# Altium schematic symbol library Other.SchLib: 179 symbols (part 4 of 11)
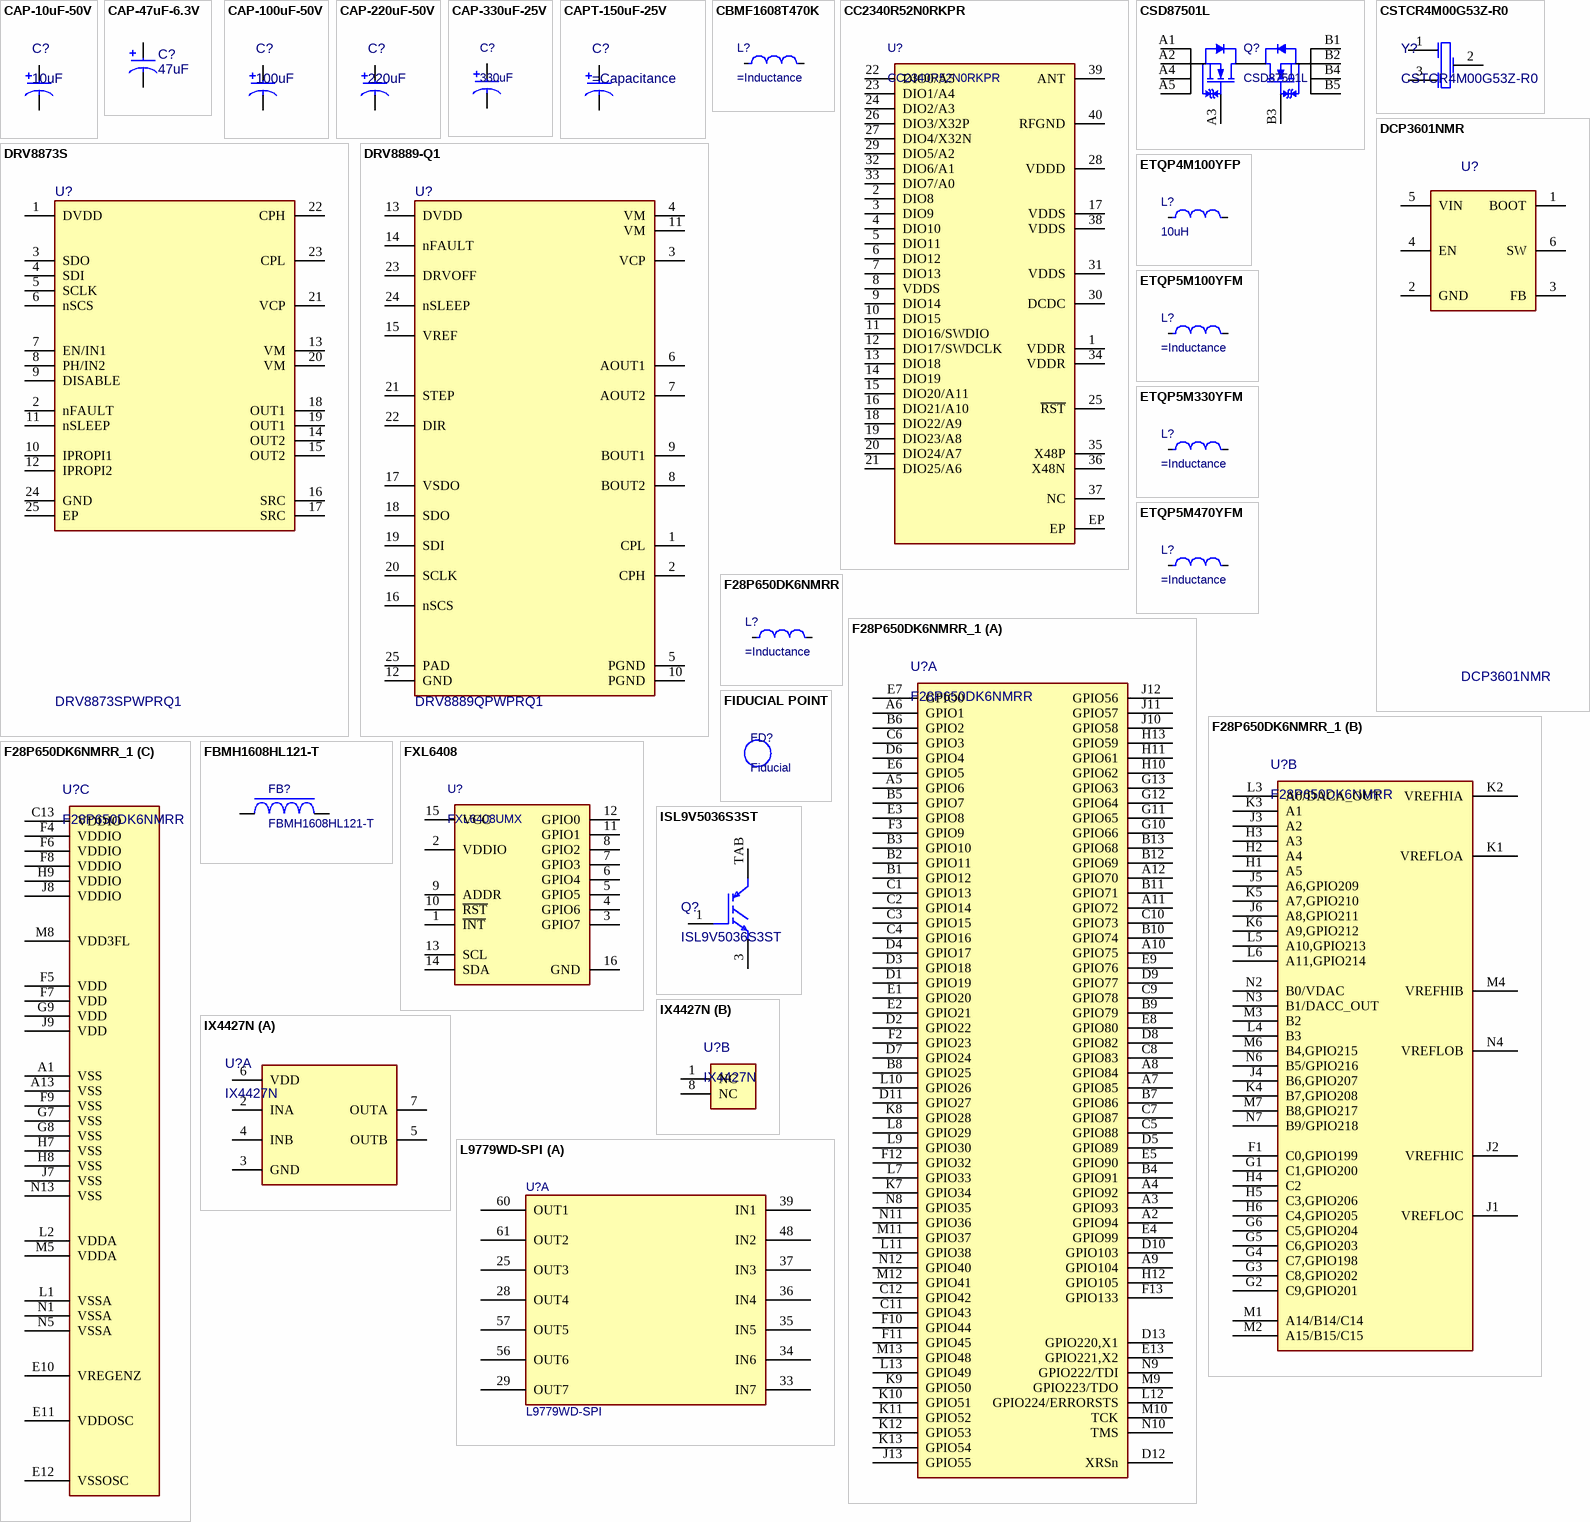
[diagram p11: symbols CAP-10uF-50V to L9779WD-SPI]

## CSD87501L
designator Q?
30-V, N channel NexFET™ power MOSFET, dual common drain LGA, 5.5 mOhm, gate ESD protection 10-PICOSTAR; Manufacturer: Texas Instruments; Manufacturer Lifecycle Status: ACTIVE; Continuous Drain Current (ID): 14A; Drain to Source Resistance: 6.6mΩ; Drain to Source Voltage (Vdss): 30V; Fall Time: 712ns; Gate to Source Voltage (Vgs): 20V; Max Power Dissipation: 2.5W; Number of Channels: 2; Rise Time: 260ns; Turn-Off Delay Time: 709ns; Turn-On Delay Time: 164ns; Supplier 1: DigiKey; Supplier Part Number 1: 296-40013-1-ND; Supplier: DigiKey; Supplier Part Number: 296-40013-1-ND; Manufacturer Part Number: CSD87501L; RoHS: Compliant; Category: MOSFETs; Stock: 6615; Pricing: 1=0,81, 10=0,581, 25=0,5224, 100=0,4584, 250=0,42784, 500=0,40944, 1000=0,3943 (USD); Case/Package: LGA; Height: 220µm; Lead Free: Lead Free; Length: 3.37mm; Lifecycle Status: Production; Max Operating Temperature: 150°C; Min Operating Temperature: -55°C; Mounting Technology: Surface Mount; Pins: 10; Packaging: Tape & Reel (TR); Thickness: 200µm; Width: 1.47mm; ComponentLink1URL: https://datasheet.octopart.com:443/CSD87501L-Texas-Instruments-datasheet-41215293.pdf?src-supplier=Texas+Instruments; ComponentLink1Description: https://datasheet.octopart.com:443/CSD87501L-Texas-Instruments-datasheet-41215293.pdf?src-supplier=Texas+Instruments; ComponentLink2URL: https://octopart.com:443/opatz8j6/c1?t=_RedG_TPcN_0GczmU68-P37L9Zvpt3NS3kx6MiuHa2BSpFJce8KxlJZWCAx0W6d-iC935YQ1tgzZp-8X-gshII2s34GfhUg3BX-XxpFR4CM_VzAfHprzZV-2qMCf6_JfQCQqUELWsoWukakZgfd_5ce4_akaR8RCXxat2NNZjlpVevOWzoBaWp4U6NQK9_cOm5QeiChx_lm8OCQLYVuwX7Mk5PhsTLwXlxyNZ1IxIBlAXyq8cFQoZF4KteL0qQGq4eo34I9YXMr8GhXgkSj6zn_02x7uiVxWKHxqYWaiNryMrdhLYxVERUL7k6ilo1ooPJEpbt6XeUStLa2EIL9AdP1AWipqkYuULgE6f0lNTYI2JKpaKNHtbCIo6fA_wClksbCCH3yPvQ&src-supplier=Texas+Instruments; ComponentLink2Description: https://octopart.com:443/opatz8j6/c1?t=_RedG_TPcN_0GczmU68-P37L9Zvpt3NS3kx6MiuHa2BSpFJce8KxlJZWCAx0W6d-iC935YQ1tgzZp-8X-gshII2s34GfhUg3BX-XxpFR4CM_VzAfHprzZV-2qMCf6_JfQCQqUELWsoWukakZgfd_5ce4_akaR8RCXxat2NNZjlpVevOWzoBaWp4U6NQK9_cOm5QeiChx_lm8OCQLYVuwX7Mk5PhsTLwXlxyNZ1IxIBlAXyq8cFQoZF4KteL0qQGq4eo34I9YXMr8GhXgkSj6zn_02x7uiVxWKHxqYWaiNryMrdhLYxVERUL7k6ilo1ooPJEpbt6XeUStLa2EIL9AdP1AWipqkYuULgE6f0lNTYI2JKpaKNHtbCIo6fA_wClksbCCH3yPvQ&src-supplier=Texas+Instruments; ComponentLink3URL: https://datasheet.octopart.com:443/CSD87501L-Texas-Instruments-datasheet-36993143.pdf?src-supplier=Texas+Instruments; ComponentLink3Description: https://datasheet.octopart.com:443/CSD87501L-Texas-Instruments-datasheet-36993143.pdf?src-supplier=Texas+Instruments; ComponentLink4URL: https://datasheet.octopart.com:443/CSD87501L-Texas-Instruments-datasheet-163657973.pdf?src-supplier=Augswan; ComponentLink4Description: https://datasheet.octopart.com:443/CSD87501L-Texas-Instruments-datasheet-163657973.pdf?src-supplier=Augswan; ComponentLink5URL: http://sigma.octopart.com:80/conflict_mineral_statement/Texas-Instruments-company-63.pdf?src-supplier=Compliance+Statements; ComponentLink5Description: http://sigma.octopart.com:80/conflict_mineral_statement/Texas-Instruments-company-63.pdf?src-supplier=Compliance+Statements; ComponentLink6URL: http://sigma.octopart.com:80/reach_statement/Texas-Instruments-company-64.pdf?src-supplier=Compliance+Statements; ComponentLink6Description: http://sigma.octopart.com:80/reach_statement/Texas-Instruments-company-64.pdf?src-supplier=Compliance+Statements
footprint SOT-363 (6 pin, 2x2.1mm)
pins: A1 S1, A2 S1, A3 G1, A4 S1, A5 S1, B1 S2, B2 S2, B3 G2, B4 S2, B5 S2

## CSTCR4M00G53Z-R0
designator Y?
CERAMIC RES 4.0000MHZ 15PF SMD; Manufacturer: Murata; Frequency: 4MHz; Tolerance: 0.5%; Impedance: 60R; Frequency Stability: 0.2%; Operating Frequency: 4 MHz; Supplier 1: Digi-Key; Manufacturer Part Number: CSTCR4M00G53Z-R0; RoHS: Yes; Category: Capacitors; Pricing 1: 1=0.27000, 10=0.22400, 50=0.20200, 100=0.17960, 500=0.17062, 1000=0.14368 (USD); Mount: Surface Mount; Case/Package: SMD/SMT; Number of Pins: 3; Contact Plating: Gold; Min Operating Temperature: -20°C; Max Operating Temperature: 80°C; Packaging: Tape and Reel; Package Quantity: 3000; Frequency Tolerance: 0.5%; Capacitance: 15pF; Load Capacitance: 15pF; Termination: SMD/SMT; Resistor Type: Ceramic; Self Resonant Frequency: 4MHz; Series: CERALOCK®; Length: 0.177inch; Width: 0.079inch; Height: 0.047inch; REACH SVHC: No SVHC; Lead Free: Lead Free; RoHS Compliant: Yes; ComponentLink1URL: https://datasheet.ciiva.com/26843/getdatasheetpartid-153071-26843600.pdf?src-supplier=Verical; ComponentLink1Description: https://datasheet.ciiva.com/26843/getdatasheetpartid-153071-26843600.pdf?src-supplier=Verical; ComponentLink2URL: https://datasheet.ciiva.com/25665/cstcr4m00g53z-r0-25665822.pdf?src-supplier=Future+Electronics; ComponentLink2Description: https://datasheet.ciiva.com/25665/cstcr4m00g53z-r0-25665822.pdf?src-supplier=Future+Electronics; ComponentLink3URL: https://datasheet.ciiva.com/884/p16e-884420.pdf?src-supplier=Digi-Key; ComponentLink3Description: https://datasheet.ciiva.com/884/p16e-884420.pdf?src-supplier=Digi-Key; ComponentLink4URL: https://datasheet.ciiva.com/884/p16e-884421.pdf?src-supplier=Digi-Key; ComponentLink4Description: https://datasheet.ciiva.com/884/p16e-884421.pdf?src-supplier=Digi-Key; ComponentLink5URL: https://datasheet.ciiva.com/884/p16e-884422.pdf?src-supplier=Digi-Key; ComponentLink5Description: https://datasheet.ciiva.com/884/p16e-884422.pdf?src-supplier=Digi-Key; Supplier Part Number 1: 490-1217-1-ND
footprint CSTCR4M00G53Z (0.177" L x 0.079" W (4.50mm x 2.00mm))
pins: 1, 2, 3

## DCP3601NMR
designator U?
36 V, 1 A SYNCHRONOUS STEP-DOWN; Manufacturer: STMicroelectronics; Supplier: Digikey; Supplier Part Number: 497-DCP3601NMRCT-ND; Manufacturer Part Number: DCP3601NMR; RoHS: No; Category: Voltage Regulators - Switching; Stock: 1960; Pricing: 1=0,79, 10=0,562, 25=0,5052, 100=0,443, 250=0,41336, 500=0,39546, 1000=0,38074, 2500=0,3652, 5000=0,35584 (USD); Supplier 1: Digikey; Supplier Part Number 1: 497-DCP3601NMRCT-ND
footprint SOT-23-6 (SOT-23, 5-Leads, Body 2.8x1.5mm)
pins: 1 BOOT, 2 GND, 3 FB, 4 EN, 5 VIN, 6 SW

## DRV8873S
designator U?, comment DRV8873SPWPRQ1
IC MTRDRV UNIPLR 0-5.5V 24HTSSOP Unipolar Motor Driver NMOS SPI 24-HTSSOP; Manufacturer: Texas Instruments; Manufacturer Lifecycle Status: ACTIVE; Max Junction Temperature (Tj): 150°C; Max Supply Voltage: 38V; Min Supply Voltage: 4.5V; Motor Type: Brushed; Nominal Supply Current: 5mA; Number of Outputs: 1; Switching Frequency: 400kHz; Supplier: DigiKey; Supplier Part Number: 296-50275-1-ND; Manufacturer Part Number: DRV8873SPWPRQ1; RoHS: Compliant; Category: Motor Drivers; Stock: 6287; Pricing: 1=4,6, 5=4,126, 10=3,949, 25=3,7388, 50=3,5952, 100=3,4635, 500=3,20104 (USD); Ambient Temperature Range High: 125°C; Height: 1.2mm; Length: 7.8mm; Lifecycle Status: Production; Max Operating Temperature: 125°C; Min Operating Temperature: -40°C; Pins: 24; Schedule B: 8542390000, 8542390000|8542390000|8542390000|8542390000|8542390000; Thickness: 1mm; Width: 4.4mm; ComponentLink1URL: https://octopart.com:443/opatz8j6/c1?t=BvrUXf77c037hmq0Opo5ueZ8VXhPHTv-VkrvLEApmVudt6b-DuOv44XL7SjM1yNibxipMj6MRMU6YED3g_3o1zBVK9QefeT-tmmvd0HKKLb3G026IEFapK8Ihecf1Q_SvZFMDJOXbMx8bJVsL_UawQgLs5Jks9xc8FbSuCyGx2HVSeWhi0P4rxDznQReVStBCSsueBDBQ040TryA2wpYGjc4htTFK_GVpIq2Ne25cxBr3Zh2t4uKqkHQurCeACualcnpZoBppUO2V0Vv69asfelVf3L20UF09t1PVYG4z-rSym9zW5XXabn_uFLibJ3i6dHe5_kLmzk7iqR0cYkJvG35OisyikXdra4chr3q6GyDiKI5IKtGCH5cB0H5h83PKmmWDATYZxM&src-supplier=Texas+Instruments; ComponentLink1Description: https://octopart.com:443/opatz8j6/c1?t=BvrUXf77c037hmq0Opo5ueZ8VXhPHTv-VkrvLEApmVudt6b-DuOv44XL7SjM1yNibxipMj6MRMU6YED3g_3o1zBVK9QefeT-tmmvd0HKKLb3G026IEFapK8Ihecf1Q_SvZFMDJOXbMx8bJVsL_UawQgLs5Jks9xc8FbSuCyGx2HVSeWhi0P4rxDznQReVStBCSsueBDBQ040TryA2wpYGjc4htTFK_GVpIq2Ne25cxBr3Zh2t4uKqkHQurCeACualcnpZoBppUO2V0Vv69asfelVf3L20UF09t1PVYG4z-rSym9zW5XXabn_uFLibJ3i6dHe5_kLmzk7iqR0cYkJvG35OisyikXdra4chr3q6GyDiKI5IKtGCH5cB0H5h83PKmmWDATYZxM&src-supplier=Texas+Instruments; ComponentLink2URL: https://sigma.octopart.com:443/49250897/technical_drawing/Texas-Instruments-DRV8873SPWPRQ1.pdf?src-supplier=Texas+Instruments; ComponentLink2Description: https://sigma.octopart.com:443/49250897/technical_drawing/Texas-Instruments-DRV8873SPWPRQ1.pdf?src-supplier=Texas+Instruments; ComponentLink3URL: https://datasheet.octopart.com:443/DRV8873SPWPRQ1-Texas-Instruments-datasheet-149164899.pdf?src-supplier=Upverter; ComponentLink3Description: https://datasheet.octopart.com:443/DRV8873SPWPRQ1-Texas-Instruments-datasheet-149164899.pdf?src-supplier=Upverter; ComponentLink4URL: https://datasheet.octopart.com:443/DRV8873SPWPRQ1-Texas-Instruments-datasheet-163658173.pdf?src-supplier=SHENGYU+ELECTRONICS; ComponentLink4Description: https://datasheet.octopart.com:443/DRV8873SPWPRQ1-Texas-Instruments-datasheet-163658173.pdf?src-supplier=SHENGYU+ELECTRONICS; ComponentLink5URL: http://sigma.octopart.com:80/conflict_mineral_statement/Texas-Instruments-company-63.pdf?src-supplier=Compliance+Statements; ComponentLink5Description: http://sigma.octopart.com:80/conflict_mineral_statement/Texas-Instruments-company-63.pdf?src-supplier=Compliance+Statements; ComponentLink6URL: http://sigma.octopart.com:80/reach_statement/Texas-Instruments-company-64.pdf?src-supplier=Compliance+Statements; ComponentLink6Description: http://sigma.octopart.com:80/reach_statement/Texas-Instruments-company-64.pdf?src-supplier=Compliance+Statements; Supplier 1: DigiKey; Supplier Part Number 1: 296-50275-1-ND
footprint TSSOP-24-EP (24-Pin Ceramic Case, 0.65 mm pin pitch)
pins: 1 DVDD, 2 nFAULT, 3 SDO, 4 SDI, 5 SCLK, 6 nSCS, 7 EN/IN1, 8 PH/IN2, 9 DISABLE, 10 IPROPI1, 11 nSLEEP, 12 IPROPI2, 13 VM, 14 OUT2, 15 OUT2, 16 SRC, 17 SRC, 18 OUT1, 19 OUT1, 20 VM, 21 VCP, 22 CPH, 23 CPL, 24 GND, 25 EP

## DRV8889-Q1
designator U?, comment DRV8889QPWPRQ1
AUTOMOTIVE STEPPER DRIVER; Manufacturer: Texas Instruments; RoHS: Yes; Category: Integrated Circuits (ICs); Stock 1: 1016; Pricing 1: 1=4.62000, 10=4.15300, 25=3.92560, 100=3.40230, 250=3.22780, 500=2.89630, 1000=2.74882 (USD); Manufacturer Part Number: DRV8889QPWPRQ1; Case/Package: 24-TSSOP
footprint TSSOP-24-EP (24-Pin Ceramic Case, 0.65 mm pin pitch)
pins: 1 CPL, 2 CPH, 3 VCP, 4 VM, 5 PGND, 6 AOUT1, 7 AOUT2, 8 BOUT2, 9 BOUT1, 10 PGND, 11 VM, 12 GND, 13 DVDD, 14 nFAULT, 15 VREF, 16 nSCS, 17 VSDO, 18 SDO, 19 SDI, 20 SCLK, 21 STEP, 22 DIR, 23 DRVOFF, 24 nSLEEP, 25 PAD

## ETQP4M100YFP
designator L?, comment 10uH
Inductor Fixed 10UH SMD; Manufacturer: Panasonic; Manufacturer Part Number: ETQ-P4M100YFP; Supplier 1: DigiKey; Supplier Part Number 1: 10-ETQ-P4M100YFPCT-ND; Supplier: DigiKey; Supplier Part Number: 10-ETQ-P4M100YFPCT-ND; Category: Fixed Inductors; Pricing: 1=1,05, 10=0,86, 25=0,796, 50=0,7504, 100=0,7075, 250=0,65452, 500=0,61714 (USD); Inductance: 10uH
footprint ETQP4MxxxYFP (5.5mm x5mm inductor package)
pins: 1, 2

## ETQP5M100YFM
designator L?
Power Choke Shielded Wirewound 10uH 20% 100KHz Metal 5.7A 0.0413Ohm DCR Automotive T/R; Manufacturer: Panasonic; Manufacturer Part Number: ETQP5M100YFM; Core Material: Composite, Metal; DC Resistance (DCR): 41.3mΩ; Value: 10µH; Number of Circuits: 1; Saturation Current: 10.6A; Shielding: Yes; Supplier 1: DigiKey; Supplier Part Number 1: P17067CT-ND; Supplier: DigiKey; Supplier Part Number: P17067CT-ND; RoHS: Compliant; Category: Fixed Inductors; Stock: 4198; Pricing: 1=1,06, 10=0,873, 25=0,8072, 50=0,7612, 100=0,7176, 250=0,66392 (USD); Case/Package: Nonstandard; Composition: Wirewound; Depth: 7mm; Height: 5.4mm; Height - Seated (Max): 5.4102mm; Inductance Tolerance: 20%; Length: 7.493mm; Lifecycle Status: Production; Max Current Rating: 5.7A; Max DC Current: 5.7A; Max Operating Temperature: 150°C; Min Operating Temperature: -40°C; Mounting Technology: Surface Mount; Number of Terminals: 2; Packaging: Cut Tape; Ratings: AEC-Q200; REACH SVHC: Yes; Schedule B: 8504500000, 8504500000|8504500000|8504500000|8504500000|8504500000; Self Resonant Frequency: 100kHz; Termination: SMD/SMT; Test Frequency: 100kHz; Tolerance: 20%; Width: 7mm; ComponentLink1URL: https://datasheet.octopart.com:443/ETQP5M100YFM-Panasonic-datasheet-180975438.pdf?src-supplier=IHS; ComponentLink1Description: https://datasheet.octopart.com:443/ETQP5M100YFM-Panasonic-datasheet-180975438.pdf?src-supplier=IHS; ComponentLink2URL: https://datasheet.octopart.com:443/ETQP5M100YFM-Panasonic-datasheet-97125960.pdf?src-supplier=Future+Electronics; ComponentLink2Description: https://datasheet.octopart.com:443/ETQP5M100YFM-Panasonic-datasheet-97125960.pdf?src-supplier=Future+Electronics; ComponentLink3URL: https://datasheet.octopart.com:443/ETQP5M100YFM-Panasonic-datasheet-136612417.pdf?src-supplier=Newark; ComponentLink3Description: https://datasheet.octopart.com:443/ETQP5M100YFM-Panasonic-datasheet-136612417.pdf?src-supplier=Newark; ComponentLink4URL: https://datasheet.octopart.com:443/ETQP5M100YFM-Panasonic-datasheet-175423512.pdf?src-supplier=Newark; ComponentLink4Description: https://datasheet.octopart.com:443/ETQP5M100YFM-Panasonic-datasheet-175423512.pdf?src-supplier=Newark; ComponentLink5URL: https://datasheet.octopart.com:443/ETQ-P5M100YFM-Panasonic-datasheet-154766191.pdf?src-supplier=Master+Electronics; ComponentLink5Description: https://datasheet.octopart.com:443/ETQ-P5M100YFM-Panasonic-datasheet-154766191.pdf?src-supplier=Master+Electronics; ComponentLink6URL: https://datasheet.octopart.com:443/ETQ-P5M100YFM-Panasonic-datasheet-140363995.pdf?src-supplier=Master+Electronics; ComponentLink6Description: https://datasheet.octopart.com:443/ETQ-P5M100YFM-Panasonic-datasheet-140363995.pdf?src-supplier=Master+Electronics; ComponentLink7URL: https://datasheet.octopart.com:443/ETQP5M100YFM-Panasonic-datasheet-41393403.pdf?src-supplier=Electro+Sonic; ComponentLink7Description: https://datasheet.octopart.com:443/ETQP5M100YFM-Panasonic-datasheet-41393403.pdf?src-supplier=Electro+Sonic; ComponentLink8URL: https://datasheet.octopart.com:443/ETQP5M100YFM-Panasonic-datasheet-156876476.pdf?src-supplier=TME; ComponentLink8Description: https://datasheet.octopart.com:443/ETQP5M100YFM-Panasonic-datasheet-156876476.pdf?src-supplier=TME; ComponentLink9URL: https://sigma.octopart.com:443/150570891/technical_drawing/Panasonic-ETQP5M100YFM.pdf?src-supplier=Panasonic+SCT; ComponentLink9Description: https://sigma.octopart.com:443/150570891/technical_drawing/Panasonic-ETQP5M100YFM.pdf?src-supplier=Panasonic+SCT; Inductance: 10µH
footprint ETQP5MxxxYFM (7.5mm x7mm inductor package)
pins: 1, 2

## ETQP5M330YFM
designator L?
Power Choke Shielded Wirewound 10uH 20% 100KHz Metal 5.7A 0.0413Ohm DCR Automotive T/R
footprint ETQP5MxxxYFM (7.5mm x7mm inductor package)
pins: 1, 2

## ETQP5M470YFM
designator L?
Power Choke Shielded Wirewound 10uH 20% 100KHz Metal 5.7A 0.0413Ohm DCR Automotive T/R
footprint ETQP5MxxxYFM (7.5mm x7mm inductor package)
pins: 1, 2

## F28P650DK6NMRR
designator L?
Power Choke Shielded Wirewound 10uH 20% 100KHz Metal 5.7A 0.0413Ohm DCR Automotive T/R; Manufacturer: Panasonic; Manufacturer Part Number: ETQP5M100YFM; Core Material: Composite, Metal; DC Resistance (DCR): 41.3mΩ; Value: 10µH; Number of Circuits: 1; Saturation Current: 10.6A; Shielding: Yes; Supplier 1: DigiKey; Supplier Part Number 1: P17067CT-ND; Supplier: DigiKey; Supplier Part Number: P17067CT-ND; RoHS: Compliant; Category: Fixed Inductors; Stock: 4198; Pricing: 1=1,06, 10=0,873, 25=0,8072, 50=0,7612, 100=0,7176, 250=0,66392 (USD); Case/Package: Nonstandard; Composition: Wirewound; Depth: 7mm; Height: 5.4mm; Height - Seated (Max): 5.4102mm; Inductance Tolerance: 20%; Length: 7.493mm; Lifecycle Status: Production; Max Current Rating: 5.7A; Max DC Current: 5.7A; Max Operating Temperature: 150°C; Min Operating Temperature: -40°C; Mounting Technology: Surface Mount; Number of Terminals: 2; Packaging: Cut Tape; Ratings: AEC-Q200; REACH SVHC: Yes; Schedule B: 8504500000, 8504500000|8504500000|8504500000|8504500000|8504500000; Self Resonant Frequency: 100kHz; Termination: SMD/SMT; Test Frequency: 100kHz; Tolerance: 20%; Width: 7mm; ComponentLink1URL: https://datasheet.octopart.com:443/ETQP5M100YFM-Panasonic-datasheet-180975438.pdf?src-supplier=IHS; ComponentLink1Description: https://datasheet.octopart.com:443/ETQP5M100YFM-Panasonic-datasheet-180975438.pdf?src-supplier=IHS; ComponentLink2URL: https://datasheet.octopart.com:443/ETQP5M100YFM-Panasonic-datasheet-97125960.pdf?src-supplier=Future+Electronics; ComponentLink2Description: https://datasheet.octopart.com:443/ETQP5M100YFM-Panasonic-datasheet-97125960.pdf?src-supplier=Future+Electronics; ComponentLink3URL: https://datasheet.octopart.com:443/ETQP5M100YFM-Panasonic-datasheet-136612417.pdf?src-supplier=Newark; ComponentLink3Description: https://datasheet.octopart.com:443/ETQP5M100YFM-Panasonic-datasheet-136612417.pdf?src-supplier=Newark; ComponentLink4URL: https://datasheet.octopart.com:443/ETQP5M100YFM-Panasonic-datasheet-175423512.pdf?src-supplier=Newark; ComponentLink4Description: https://datasheet.octopart.com:443/ETQP5M100YFM-Panasonic-datasheet-175423512.pdf?src-supplier=Newark; ComponentLink5URL: https://datasheet.octopart.com:443/ETQ-P5M100YFM-Panasonic-datasheet-154766191.pdf?src-supplier=Master+Electronics; ComponentLink5Description: https://datasheet.octopart.com:443/ETQ-P5M100YFM-Panasonic-datasheet-154766191.pdf?src-supplier=Master+Electronics; ComponentLink6URL: https://datasheet.octopart.com:443/ETQ-P5M100YFM-Panasonic-datasheet-140363995.pdf?src-supplier=Master+Electronics; ComponentLink6Description: https://datasheet.octopart.com:443/ETQ-P5M100YFM-Panasonic-datasheet-140363995.pdf?src-supplier=Master+Electronics; ComponentLink7URL: https://datasheet.octopart.com:443/ETQP5M100YFM-Panasonic-datasheet-41393403.pdf?src-supplier=Electro+Sonic; ComponentLink7Description: https://datasheet.octopart.com:443/ETQP5M100YFM-Panasonic-datasheet-41393403.pdf?src-supplier=Electro+Sonic; ComponentLink8URL: https://datasheet.octopart.com:443/ETQP5M100YFM-Panasonic-datasheet-156876476.pdf?src-supplier=TME; ComponentLink8Description: https://datasheet.octopart.com:443/ETQP5M100YFM-Panasonic-datasheet-156876476.pdf?src-supplier=TME; ComponentLink9URL: https://sigma.octopart.com:443/150570891/technical_drawing/Panasonic-ETQP5M100YFM.pdf?src-supplier=Panasonic+SCT; ComponentLink9Description: https://sigma.octopart.com:443/150570891/technical_drawing/Panasonic-ETQP5M100YFM.pdf?src-supplier=Panasonic+SCT; Inductance: 10µH
footprint ETQP5MxxxYFM (7.5mm x7mm inductor package)
pins: 1, 2

## F28P650DK6NMRR_1
designator U?, comment F28P650DK6NMRR
C2000™ 32-bit MCU, 2x C28x+CLA CPU, Lock Step, 1.28-MB flash, 16-b ADC, HRPWM, EtherCAT, CAN-FD, AES 169-NFBGA -40 to...; Manufacturer: Texas Instruments; Manufacturer Lifecycle Status: ACTIVE; Number of UART Channels: 4; Supplier 1: DigiKey; Supplier Part Number 1: 296-F28P650DK6NMRRTR-ND; Supplier: DigiKey; Supplier Part Number: 296-F28P650DK6NMRRTR-ND; Manufacturer Part Number: F28P650DK6NMRR; RoHS: Compliant; Category: Microcontrollers; Pricing: 1000=11,46098 (USD); Height: 0m; Length: 9mm; Lifecycle Status: Production; Pins: 169; Thickness: 650µm; Width: 9mm; ComponentLink1URL: https://sigma.octopart.com:443/170336436/technical_drawing/Texas-Instruments-F28P650DK6NMRR.pdf?src-supplier=Texas+Instruments; ComponentLink1Description: https://sigma.octopart.com:443/170336436/technical_drawing/Texas-Instruments-F28P650DK6NMRR.pdf?src-supplier=Texas+Instruments; ComponentLink2URL: https://octopart.com:443/opatz8j6/c1?t=APRw11tpYPVjWCcH60awOXt0cGwImscANGC7li7_cx_Agxm915MhAZTObmDghc9eZOaw_mHD48OCZSRp73lGddKWUBe5fw7JdS3oY6-WaShYciiLLEgoA4x4huAl_qcDmd35tthWJciG_j9G0_KiT0SpOlZap5xOApFweMh2aZbGRedpPOVXVEDON4Icb6hkm9W7qm4-y49tBp6shpQILr3wInC47Ns5REcOk_fqp6GFBCGfdNNlvimY7LhF-z2TQJYRCUXuPMF8jbjKwibXb4IEVHm3troRaaxBm4vGhw5rMNpdyp6Yfknc0rFnvpyRKpgralAt9vXUJ0VNHXN8-zHJova3rwODBasGVAO6XlgY1J4nqzjFJr64ola8gSl7fMvjJfjBTM6KoBMDgg&src-supplier=Texas+Instruments; ComponentLink2Description: https://octopart.com:443/opatz8j6/c1?t=APRw11tpYPVjWCcH60awOXt0cGwImscANGC7li7_cx_Agxm915MhAZTObmDghc9eZOaw_mHD48OCZSRp73lGddKWUBe5fw7JdS3oY6-WaShYciiLLEgoA4x4huAl_qcDmd35tthWJciG_j9G0_KiT0SpOlZap5xOApFweMh2aZbGRedpPOVXVEDON4Icb6hkm9W7qm4-y49tBp6shpQILr3wInC47Ns5REcOk_fqp6GFBCGfdNNlvimY7LhF-z2TQJYRCUXuPMF8jbjKwibXb4IEVHm3troRaaxBm4vGhw5rMNpdyp6Yfknc0rFnvpyRKpgralAt9vXUJ0VNHXN8-zHJova3rwODBasGVAO6XlgY1J4nqzjFJr64ola8gSl7fMvjJfjBTM6KoBMDgg&src-supplier=Texas+Instruments; ComponentLink3URL: http://sigma.octopart.com:80/reach_statement/Texas-Instruments-company-64.pdf?src-supplier=Compliance+Statements; ComponentLink3Description: http://sigma.octopart.com:80/reach_statement/Texas-Instruments-company-64.pdf?src-supplier=Compliance+Statements; ComponentLink4URL: http://sigma.octopart.com:80/conflict_mineral_statement/Texas-Instruments-company-63.pdf?src-supplier=Compliance+Statements; ComponentLink4Description: http://sigma.octopart.com:80/conflict_mineral_statement/Texas-Instruments-company-63.pdf?src-supplier=Compliance+Statements
footprint NFBGA169 (9x9mm)
part A pins: A2 GPIO94, A3 GPIO93, A4 GPIO92, A5 GPIO6, A6 GPIO1, A7 GPIO85, A8 GPIO84, A9 GPIO104, A10 GPIO75, A11 GPIO72, A12 GPIO70, B1 GPIO12, B2 GPIO11, B3 GPIO10, B4 GPIO91, B5 GPIO7, B6 GPIO2, B7 GPIO86, B8 GPIO25, B9 GPIO79, B10 GPIO74, B11 GPIO71, B12 GPIO69, B13 GPIO68, C1 GPIO13, C2 GPIO14, C3 GPIO15, C4 GPIO16, C5 GPIO88, C6 GPIO3, C7 GPIO87, C8 GPIO83, C9 GPIO78, C10 GPIO73, C11 GPIO43, C12 GPIO42, D1 GPIO19, D2 GPIO22, D3 GPIO18, D4 GPIO17, D5 GPIO89, D6 GPIO4, D7 GPIO24, D8 GPIO82, D9 GPIO77, D10 GPIO103, D11 GPIO27, D12 XRSn, D13 GPIO220,X1, E1 GPIO20, E2 GPIO21, E3 GPIO8, E4 GPIO99, E5 GPIO90, E6 GPIO5, E7 GPIO0, E8 GPIO80, E9 GPIO76, E13 GPIO221,X2, F2 GPIO23, F3 GPIO9, F10 GPIO44, F11 GPIO45, F12 GPIO32, F13 GPIO133, G10 GPIO66, G11 GPIO65, G12 GPIO64, G13 GPIO63, H10 GPIO62, H11 GPIO61, H12 GPIO105, H13 GPIO59, J10 GPIO58, J11 GPIO57, J12 GPIO56, J13 GPIO55, K7 GPIO34, K8 GPIO28, K9 GPIO50, K10 GPIO51, K11 GPIO52, K12 GPIO53, K13 GPIO54, L7 GPIO33, L8 GPIO29, L9 GPIO30, L10 GPIO26, L11 GPIO38, L12 GPIO224/ERRORSTS, L13 GPIO49, M9 GPIO223/TDO, M10 TCK, M11 GPIO37, M12 GPIO41, M13 GPIO48, N8 GPIO35, N9 GPIO222/TDI, N10 TMS, N11 GPIO36, N12 GPIO40
part B pins: F1 C0,GPIO199, G1 C1,GPIO200, G2 C9,GPIO201, G3 C8,GPIO202, G4 C7,GPIO198, G5 C6,GPIO203, G6 C5,GPIO204, H1 A5, H2 A4, H3 A3, H4 C2, H5 C3,GPIO206, H6 C4,GPIO205, J1 VREFLOC, J2 VREFHIC, J3 A2, J4 B6,GPIO207, J5 A6,GPIO209, J6 A8,GPIO211, K1 VREFLOA, K2 VREFHIA, K3 A1, K4 B7,GPIO208, K5 A7,GPIO210, K6 A9,GPIO212, L3 A0/DACA_OUT, L4 B3, L5 A10,GPIO213, L6 A11,GPIO214, M1 A14/B14/C14, M2 A15/B15/C15, M3 B2, M4 VREFHIB, M6 B4,GPIO215, M7 B8,GPIO217, N2 B0/VDAC, N3 B1/DACC_OUT, N4 VREFLOB, N6 B5/GPIO216, N7 B9/GPIO218
part C pins: A1 VSS, A13 VSS, C13 VDDIO, E10 VREGENZ, E11 VDDOSC, E12 VSSOSC, F4 VDDIO, F5 VDD, F6 VDDIO, F7 VDD, F8 VDDIO, F9 VSS, G7 VSS, G8 VSS, G9 VDD, H7 VSS, H8 VSS, H9 VDDIO, J7 VSS, J8 VDDIO, J9 VDD, L1 VSSA, L2 VDDA, M5 VDDA, M8 VDD3FL, N1 VSSA, N5 VSSA, N13 VSS

## FBMH1608HL121-T
designator FB?
FERRITE BEAD 120 OHM 0603 1LN; Manufacturer: Taiyo Yuden; Supplier: Digikey; Supplier Part Number: 587-1731-1-ND; Manufacturer Part Number: FBMH1608HL121-T; RoHS: Yes; Category: Ferrite Beads and Chips; Stock: 4210; Pricing: 1=0,17, 10=0,118, 25=0,1024, 50=0,0916, 100=0,082, 250=0,07028, 500=0,06222, 1000=0,05476 (USD); ComponentLink1URL: https://datasheet.ciiva.com/16001/104fbmh1608hl121-t-16001055.pdf?src-supplier=Onlinecomponents.com; ComponentLink1Description: https://datasheet.ciiva.com/16001/104fbmh1608hl121-t-16001055.pdf?src-supplier=Onlinecomponents.com; ComponentLink2URL: https://datasheet.ciiva.com/7966/fbmh1608hl121-t-ss-7966161.pdf?src-supplier=Element14; ComponentLink2Description: https://datasheet.ciiva.com/7966/fbmh1608hl121-t-ss-7966161.pdf?src-supplier=Element14; ComponentLink3URL: https://datasheet.ciiva.com/30209/fbmh1608hl121-t-30209463.pdf?src-supplier=Onlinecomponents.com; ComponentLink3Description: https://datasheet.ciiva.com/30209/fbmh1608hl121-t-30209463.pdf?src-supplier=Onlinecomponents.com; ComponentLink4URL: https://datasheet.ciiva.com/25612/0900766b810b37be-25612388.pdf?src-supplier=Rs; ComponentLink4Description: https://datasheet.ciiva.com/25612/0900766b810b37be-25612388.pdf?src-supplier=Rs; ComponentLink5URL: https://datasheet.ciiva.com/1012/chipbeads01-e-1012500.pdf?src-supplier=Digikey; ComponentLink5Description: https://datasheet.ciiva.com/1012/chipbeads01-e-1012500.pdf?src-supplier=Digikey; ComponentLink6URL: https://datasheet.ciiva.com/1012/chipbeads01-e-1012501.pdf?src-supplier=Digikey; ComponentLink6Description: https://datasheet.ciiva.com/1012/chipbeads01-e-1012501.pdf?src-supplier=Digikey; ComponentLink7URL: https://datasheet.ciiva.com/1012/chipbeads01-e-1012502.pdf?src-supplier=Digikey; ComponentLink7Description: https://datasheet.ciiva.com/1012/chipbeads01-e-1012502.pdf?src-supplier=Digikey; Supplier 1: Digikey; Supplier Part Number 1: 587-1731-1-ND
footprint FB0603 (Chip Resistor, 2-Leads, Body 1.75x0.95mm)
pins: 1, 2

## FIDUCIAL POINT
designator FD?, comment Fiducial  (no BOM)
FIDUCIAL POINT
footprint FID_POINT (Fiducial point, 1.5 mm x 4.5 mm solder free area)

## FXL6408
designator U?, comment FXL6408UMX
FXL6408 Series 1.65 to 4 V Open Drain 8-Bit I2C-Controlled GPIO Expander-UMLP-16; Manufacturer: onsemi; Manufacturer Lifecycle Status: ACTIVE; Frequency: 400kHz; Interface: I2C; Max Junction Temperature (Tj): 150°C; Max Supply Voltage: 3.6V; Min Supply Voltage: 1.65V; Nominal Supply Current: 300µA; Number of I/Os: 8; Number of Ports: 1; Operating Supply Voltage: 1.8V; Output Current: 6mA; Supplier 1: DigiKey; Supplier Part Number 1: FXL6408UMXCT-ND; Supplier: DigiKey; Supplier Part Number: FXL6408UMXCT-ND; Manufacturer Part Number: FXL6408UMX; RoHS: Compliant; Category: I/O Expanders; Stock: 53995; Pricing: 1=0,55, 10=0,386, 25=0,3452, 100=0,3007, 250=0,27932, 500=0,26646, 1000=0,25588, 2500=0,2447 (USD); Ambient Temperature Range High: 85°C; China RoHS: Compliant; Height: 550µm; Height - Seated (Max): 550µm; Lead Free: Lead Free; Length: 2.6mm; Lifecycle Status: Production; Clock Frequency: 400kHz; Max Operating Temperature: 85°C; Min Operating Temperature: -40°C; Mounting Technology: Surface Mount; Pins: 16; Number of Terminals: 16; REACH SVHC: Yes; Schedule B: 8542390000, 8542390000|8542390000|8542390000|8542390000|8542390000; Terminal Pitch: 400µm; Weight: 6.54mg; Width: 1.8mm; ComponentLink1URL: https://datasheet.octopart.com:443/FXL6408UMX-ON-Semiconductor-datasheet-137357745.pdf?src-supplier=JRH+Electronics; ComponentLink1Description: https://datasheet.octopart.com:443/FXL6408UMX-ON-Semiconductor-datasheet-137357745.pdf?src-supplier=JRH+Electronics; ComponentLink2URL: https://datasheet.octopart.com:443/FXL6408UMX-onsemi-datasheet-180960890.pdf?src-supplier=IHS; ComponentLink2Description: https://datasheet.octopart.com:443/FXL6408UMX-onsemi-datasheet-180960890.pdf?src-supplier=IHS; ComponentLink3URL: https://datasheet.octopart.com:443/FXL6408UMX-ON-Semiconductor-datasheet-17289508.pdf?src-supplier=IHS; ComponentLink3Description: https://datasheet.octopart.com:443/FXL6408UMX-ON-Semiconductor-datasheet-17289508.pdf?src-supplier=IHS; ComponentLink4URL: https://sigma.octopart.com:443/138706068/technical_drawing/ON-Semiconductor-FXL6408UMX.pdf?src-supplier=Upverter; ComponentLink4Description: https://sigma.octopart.com:443/138706068/technical_drawing/ON-Semiconductor-FXL6408UMX.pdf?src-supplier=Upverter; ComponentLink5URL: https://datasheet.octopart.com:443/FXL6408UMX-ON-Semiconductor-datasheet-85553810.pdf?src-supplier=onsemi; ComponentLink5Description: https://datasheet.octopart.com:443/FXL6408UMX-ON-Semiconductor-datasheet-85553810.pdf?src-supplier=onsemi; ComponentLink6URL: https://datasheet.octopart.com:443/FXL6408UMX-ON-Semiconductor-datasheet-86697188.pdf?src-supplier=onsemi; ComponentLink6Description: https://datasheet.octopart.com:443/FXL6408UMX-ON-Semiconductor-datasheet-86697188.pdf?src-supplier=onsemi; ComponentLink7URL: https://datasheet.octopart.com:443/FXL6408UMX-onsemi-datasheet-164414455.pdf?src-supplier=Augswan; ComponentLink7Description: https://datasheet.octopart.com:443/FXL6408UMX-onsemi-datasheet-164414455.pdf?src-supplier=Augswan; ComponentLink8URL: https://sigma.octopart.com:443/33173499/technical_drawing/Fairchild-Semiconductor-FXL6408UMX.pdf?src-supplier=Fairchild+Semiconductor; ComponentLink8Description: https://sigma.octopart.com:443/33173499/technical_drawing/Fairchild-Semiconductor-FXL6408UMX.pdf?src-supplier=Fairchild+Semiconductor; ComponentLink9URL: https://sigma.octopart.com:443/17351251/technical_drawing/Fairchild-Semiconductor-FXL6408UMX.pdf?src-supplier=Fairchild+Semiconductor; ComponentLink9Description: https://sigma.octopart.com:443/17351251/technical_drawing/Fairchild-Semiconductor-FXL6408UMX.pdf?src-supplier=Fairchild+Semiconductor; ComponentLink10URL: http://sigma.octopart.com:80/150611660/rohs_statement/ON-Semiconductor-FXL6408UMX.pdf?src-supplier=Compliance+Statements; ComponentLink10Description: http://sigma.octopart.com:80/150611660/rohs_statement/ON-Semiconductor-FXL6408UMX.pdf?src-supplier=Compliance+Statements; ComponentLink11URL: http://sigma.octopart.com:80/17289509/reach_statement/Fairchild-Semiconductor-FXL6408UMX.pdf?src-supplier=Compliance+Statements; ComponentLink11Description: http://sigma.octopart.com:80/17289509/reach_statement/Fairchild-Semiconductor-FXL6408UMX.pdf?src-supplier=Compliance+Statements; ComponentLink12URL: http://sigma.octopart.com:80/17351973/materials_sheet/Fairchild-Semiconductor-FXL6408UMX.pdf?src-supplier=Compliance+Statements; ComponentLink12Description: http://sigma.octopart.com:80/17351973/materials_sheet/Fairchild-Semiconductor-FXL6408UMX.pdf?src-supplier=Compliance+Statements; ComponentLink13URL: http://sigma.octopart.com:80/17351972/rohs_statement/Fairchild-Semiconductor-FXL6408UMX.pdf?src-supplier=Compliance+Statements; ComponentLink13Description: http://sigma.octopart.com:80/17351972/rohs_statement/Fairchild-Semiconductor-FXL6408UMX.pdf?src-supplier=Compliance+Statements; ComponentLink14URL: http://sigma.octopart.com:80/17289510/rohs_statement/Fairchild-Semiconductor-FXL6408UMX.pdf?src-supplier=Compliance+Statements; ComponentLink14Description: http://sigma.octopart.com:80/17289510/rohs_statement/Fairchild-Semiconductor-FXL6408UMX.pdf?src-supplier=Compliance+Statements; ComponentLink15URL: http://sigma.octopart.com:80/33178268/reach_statement/Fairchild-Semiconductor-FXL6408UMX.pdf?src-supplier=Compliance+Statements; ComponentLink15Description: http://sigma.octopart.com:80/33178268/reach_statement/Fairchild-Semiconductor-FXL6408UMX.pdf?src-supplier=Compliance+Statements; ComponentLink16URL: http://sigma.octopart.com:80/33178269/materials_sheet/Fairchild-Semiconductor-FXL6408UMX.pdf?src-supplier=Compliance+Statements; ComponentLink16Description: http://sigma.octopart.com:80/33178269/materials_sheet/Fairchild-Semiconductor-FXL6408UMX.pdf?src-supplier=Compliance+Statements; ComponentLink17URL: http://sigma.octopart.com:80/reach_statement/ON-Semiconductor-company-79.pdf?src-supplier=Compliance+Statements; ComponentLink17Description: http://sigma.octopart.com:80/reach_statement/ON-Semiconductor-company-79.pdf?src-supplier=Compliance+Statements; ComponentLink18URL: http://sigma.octopart.com:80/reach_statement/Fairchild-Semiconductor-company-9.pdf?src-supplier=Compliance+Statements; ComponentLink18Description: http://sigma.octopart.com:80/reach_statement/Fairchild-Semiconductor-company-9.pdf?src-supplier=Compliance+Statements; ComponentLink19URL: http://sigma.octopart.com:80/rohs_statement/Fairchild-Semiconductor-company-10.pdf?src-supplier=Compliance+Statements; ComponentLink19Description: http://sigma.octopart.com:80/rohs_statement/Fairchild-Semiconductor-company-10.pdf?src-supplier=Compliance+Statements; ComponentLink20URL: http://sigma.octopart.com:80/rohs_statement/Fairchild-Semiconductor-company-11.pdf?src-supplier=Compliance+Statements; ComponentLink20Description: http://sigma.octopart.com:80/rohs_statement/Fairchild-Semiconductor-company-11.pdf?src-supplier=Compliance+Statements; ComponentLink21URL: https://octopart.com:443/opatz8j6/c1?t=9YB1AZBYE-sXEizKn0py3zX9j1M05Gk0yrfk0hzfSruB06j5fax9-1SjUbutGBGBJOlAp5F0JSkPMRBylfD7rkLc7xALWF52og5RY-SsRfckgfrkjcpOuse6lPMJBKQyVI1DL_VzPPSFq9zBfErL6jYwbNOy_BxN-2ynKSI2Xgn4CpoUUOUgQwLl3QxCnkdGXYCJzSFwUtnVQa8C8pnLVloJd98I_WncE3wWbDpV7cSl2TjdstVf4LJiP0fKo59ZVAFWGT-jbXU0Cx9etyrznbN-GNeu9jJq836Ki4ph0wwwtZ0IG6NZ5LmhDVVLEkmTU3PnEH_ZCDmWWdGdDTqSLnwF5g1upAIMxhYS7Q&src-supplier=Compliance+Statements; ComponentLink21Description: https://octopart.com:443/opatz8j6/c1?t=9YB1AZBYE-sXEizKn0py3zX9j1M05Gk0yrfk0hzfSruB06j5fax9-1SjUbutGBGBJOlAp5F0JSkPMRBylfD7rkLc7xALWF52og5RY-SsRfckgfrkjcpOuse6lPMJBKQyVI1DL_VzPPSFq9zBfErL6jYwbNOy_BxN-2ynKSI2Xgn4CpoUUOUgQwLl3QxCnkdGXYCJzSFwUtnVQa8C8pnLVloJd98I_WncE3wWbDpV7cSl2TjdstVf4LJiP0fKo59ZVAFWGT-jbXU0Cx9etyrznbN-GNeu9jJq836Ki4ph0wwwtZ0IG6NZ5LmhDVVLEkmTU3PnEH_ZCDmWWdGdDTqSLnwF5g1upAIMxhYS7Q&src-supplier=Compliance+Statements; ComponentLink22URL: https://octopart.com:443/opatz8j6/c1?t=Dxhb7BIF_k9crA6OSvstyc8pgzmLXI0c-8seLF5EwaD-YjeDmRh6XEqf8riGQmt0ioAkf5_bIt3wISWaFBjYWy_QtoLrYN4dQXX6ghGM08nIDZkPgK-gnZXLC9kOXn5PY4xmfOQscyJGCMrABZ6mOONXWWyPfSVXUV9-Lvq7OtijTDI2qzz7SbfBqgKJqNu1e60lIEHOLwIeSJSZzPAR1aE49oAkjLzHi3Cszr2W0ZhKZYqkkXF-YaBGsp80TLdLraiWCwORJCFI5tnGRcHeYtRa7nF7G6F-k0XTFbilowv9IzwhHbMaGd4iNWhmEm0SAaO8M4evs8L3afFb4JG_EWMth-iVNfYruJUVVAw&src-supplier=Compliance+Statements; ComponentLink22Description: https://octopart.com:443/opatz8j6/c1?t=Dxhb7BIF_k9crA6OSvstyc8pgzmLXI0c-8seLF5EwaD-YjeDmRh6XEqf8riGQmt0ioAkf5_bIt3wISWaFBjYWy_QtoLrYN4dQXX6ghGM08nIDZkPgK-gnZXLC9kOXn5PY4xmfOQscyJGCMrABZ6mOONXWWyPfSVXUV9-Lvq7OtijTDI2qzz7SbfBqgKJqNu1e60lIEHOLwIeSJSZzPAR1aE49oAkjLzHi3Cszr2W0ZhKZYqkkXF-YaBGsp80TLdLraiWCwORJCFI5tnGRcHeYtRa7nF7G6F-k0XTFbilowv9IzwhHbMaGd4iNWhmEm0SAaO8M4evs8L3afFb4JG_EWMth-iVNfYruJUVVAw&src-supplier=Compliance+Statements
footprint UQFN16(1.8x2.6) (UQFN16 1.80x2.60x0.50, 0.40P)
pins: 1 ~{INT}, 2 VDDIO, 3 GPIO7, 4 GPIO6, 5 GPIO5, 6 GPIO4, 7 GPIO3, 8 GPIO2, 9 ADDR, 10 ~{RST}, 11 GPIO1, 12 GPIO0, 13 SCL, 14 SDA, 15 VCC, 16 GND

## ISL9V5036S3ST
designator Q?
IGBT 390V 46A 250W TO263AB; Manufacturer: ON Semiconductor / Fairchild; Collector Emitter Voltage (VCEO): 1.6V; Collector Emitter Saturation Voltage: 1.17V; Element Configuration: Single; Voltage Rating (DC): 360V; Rise Time: 2.1us; Supplier 1: Digi-Key; Manufacturer Part Number: ISL9V5036S3ST; RoHS: Yes; Category: IGBTs; Pricing 1: 1=3.01000, 10=2.53000, 25=2.38800, 100=2.04690 (USD); Mount: Surface Mount; Case/Package: TO-263-3; Number of Pins: 3; Weight: 1.31247g; Min Operating Temperature: -40°C; Max Operating Temperature: 175°C; Packaging: Tape and Reel; Package Quantity: 1; Max Collector Current: 46A; Max Power Dissipation: 250W; Collector Emitter Breakdown Voltage: 390V; Max Breakdown Voltage: 390V; Power Dissipation: 250W; Current Rating: 46A; Clamping Voltage: 360V; Length: 10.67mm; Width: 9.65mm; Height: 4.83mm; Radiation Hardening: No; RoHS Compliant: Yes; REACH SVHC: No SVHC; Lead Free: Lead Free; ComponentLink1URL: https://datasheet.ciiva.com/960/isl9v5036s3-960528.pdf?src-supplier=Digi-Key; ComponentLink1Description: https://datasheet.ciiva.com/960/isl9v5036s3-960528.pdf?src-supplier=Digi-Key; ComponentLink2URL: https://datasheet.ciiva.com/1187/1732057-1187378.pdf?src-supplier=Element14; ComponentLink2Description: https://datasheet.ciiva.com/1187/1732057-1187378.pdf?src-supplier=Element14; ComponentLink3URL: https://datasheet.ciiva.com/4896/isl9v5036s3st-189166-4896614.pdf?src-supplier=Mouser; ComponentLink3Description: https://datasheet.ciiva.com/4896/isl9v5036s3st-189166-4896614.pdf?src-supplier=Mouser; ComponentLink4URL: https://datasheet.ciiva.com/960/isl9v5036s3-960529.pdf?src-supplier=Digi-Key; ComponentLink4Description: https://datasheet.ciiva.com/960/isl9v5036s3-960529.pdf?src-supplier=Digi-Key; ComponentLink5URL: https://datasheet.ciiva.com/3051/isl9v5036s3-3051528.pdf?src-supplier=Avnet; ComponentLink5Description: https://datasheet.ciiva.com/3051/isl9v5036s3-3051528.pdf?src-supplier=Avnet; ComponentLink6URL: https://datasheet.ciiva.com/960/isl9v5036s3-960527.pdf?src-supplier=Digi-Key; ComponentLink6Description: https://datasheet.ciiva.com/960/isl9v5036s3-960527.pdf?src-supplier=Digi-Key; Supplier Part Number 1: ISL9V5036S3STCT-ND
footprint TO-263-3 (TO-263-3, D²Pak (2 Leads + Tab), TO-263AB)
pins: 1 G, 3 E, TAB C_(TAB)

## IX4427N
designator U?
IC GATE DRVR LOW-SIDE 8SOIC; Manufacturer 1: IXYS; Number of Outputs: 2; Rise Time: 10ns; Output Current: 1.5A; Max Supply Voltage: 35V; Min Supply Voltage: 4.5V; Fall Time: 8ns; Operating Supply Current: 4mA; Turn-Off Delay Time: 60ns; Supplier 1: Mouser; Manufacturer Part Number 1: IX4427N; RoHS: Yes; Category: Gate Drivers; Pricing 1: 1=1.07000, 10=0.96200, 50=0.91300, 100=0.74900, 1000=0.48800, 10000=0.44500 (USD); Case/Package: SOIC; Weight: 0.019048oz; Min Operating Temperature: -40°C; Max Operating Temperature: 125°C; Packaging: Rail/Tube; Package Quantity: 100; Number of Drivers: 2; Turn-On Delay Time: 60ns; Series: IX4427; RoHS Compliant: Yes; ComponentLink1URL: http://www.mouser.com/ds/2/205/IX4426-27-28-257212.pdf?src-supplier=Mouser; ComponentLink1Description: http://www.mouser.com/ds/2/205/IX4426-27-28-257212.pdf?src-supplier=Mouser; ComponentLink2URL: http://www.ixysic.com/home/pdfs.nsf/www/IX4426-27-28.pdf/$file/IX4426-27-28.pdf?src-supplier=Digi-Key; ComponentLink2Description: http://www.ixysic.com/home/pdfs.nsf/www/IX4426-27-28.pdf/$file/IX4426-27-28.pdf?src-supplier=Digi-Key; Manufacturer Part Number: IX4427N
footprint SOIC8 (8-SOIC (0.154", 3.90mm Width))
part A pins: 2 INA, 3 GND, 4 INB, 5 OUTB, 6 VDD, 7 OUTA
part B pins: 1 NC, 8 NC

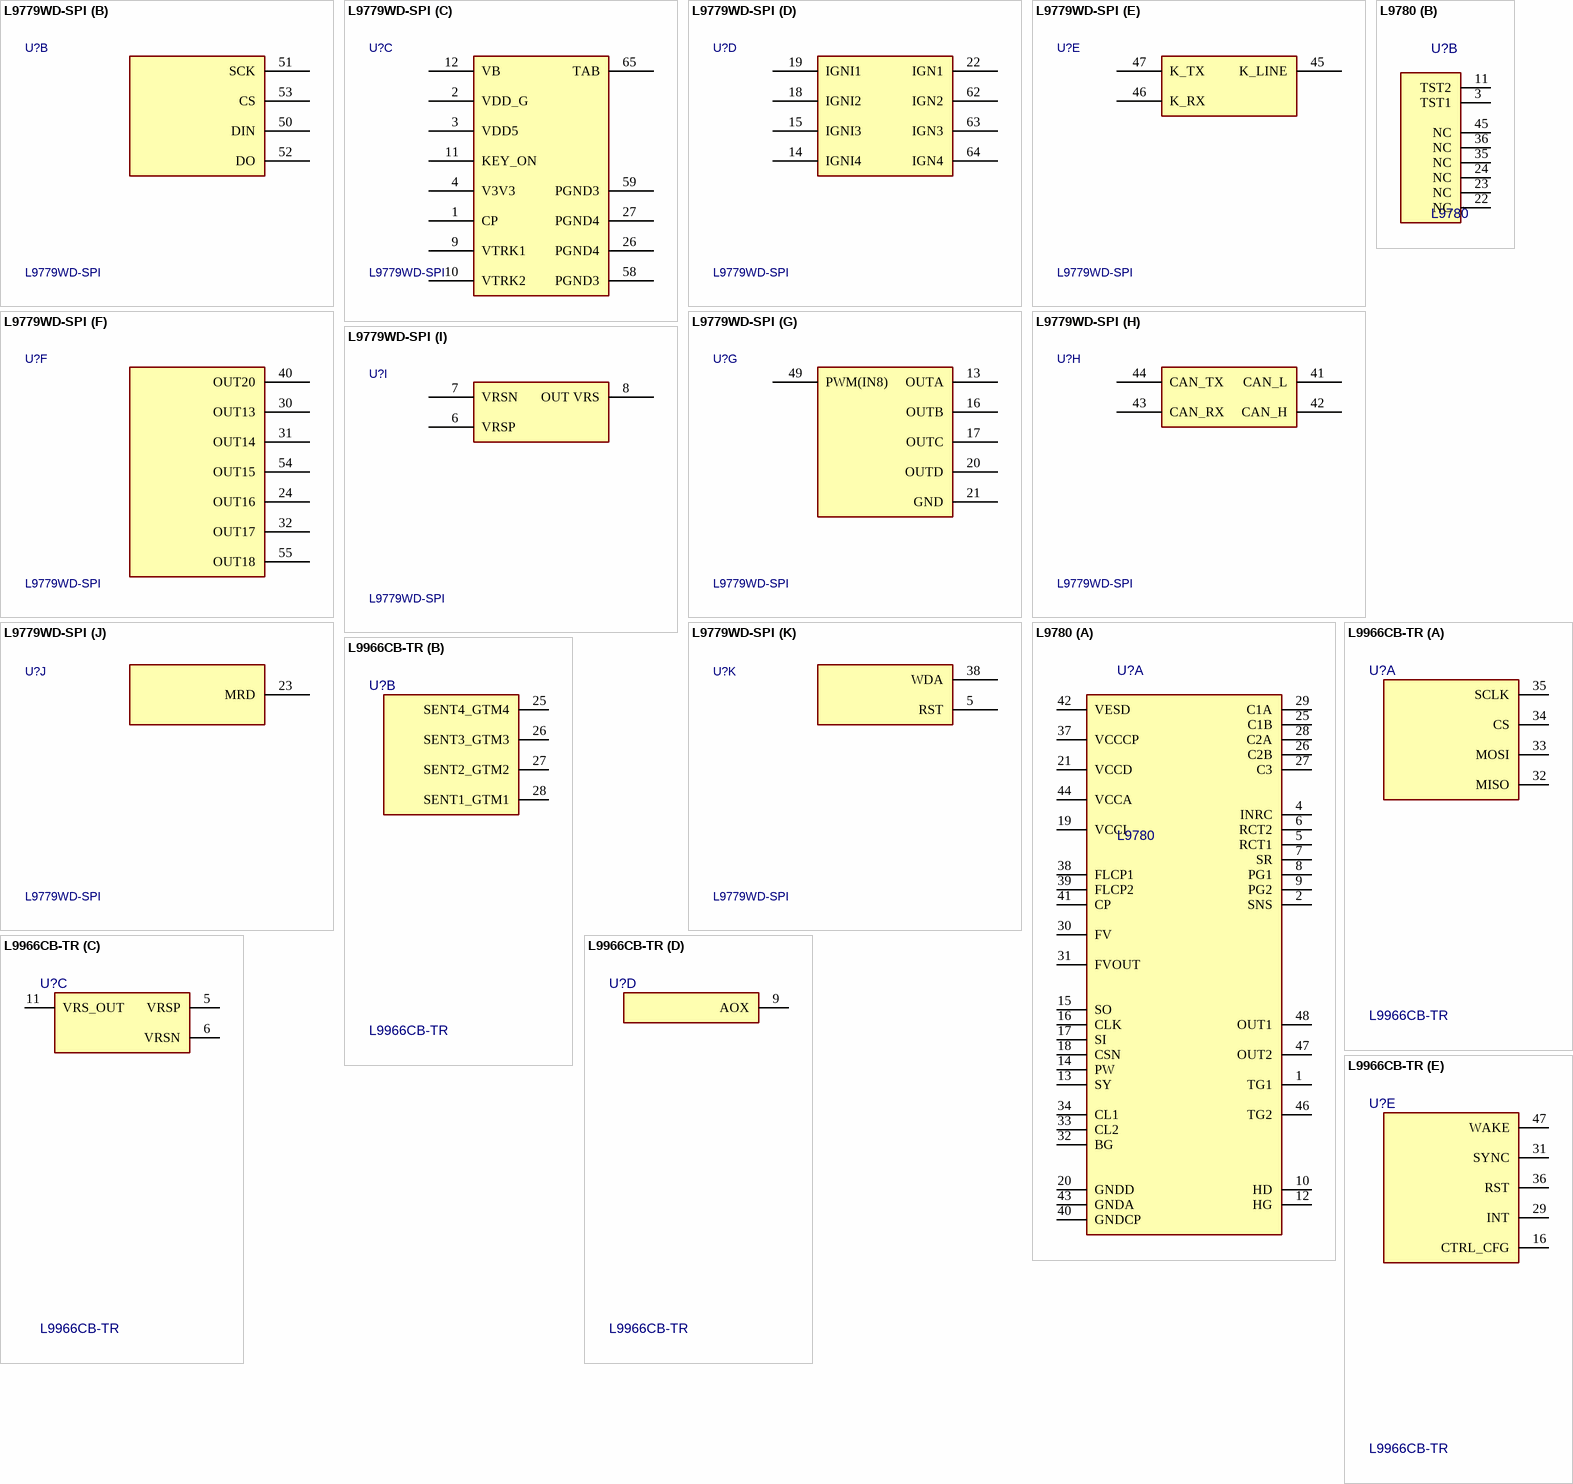
[diagram p3: symbols L9779WD-SPI to L9966CB-TR]

## L9779WD-SPI
designator U?
MULTIFUNCTION IC FOR ENGINE MANA; Manufacturer: STMicroelectronics; Operating Supply Current: 550uA; ComponentLink1URL: https://datasheet.ciiva.com/16844/142-0721-882-16844368.pdf?src-supplier=Future+Electronics; ComponentLink1Description: https://datasheet.ciiva.com/16844/142-0721-882-16844368.pdf?src-supplier=Future+Electronics; Supplier 1: Digi-Key; Manufacturer Part Number: L9779WD-SPI; RoHS: Yes; Category: Voltage Regulators - Linear; Stock 1: 1383; Pricing 1: 1=11,55000, 10=10,61500, 25=10,17520, 100=8,52500, 250=7,97500, 500=7,42500, 1000=7,04000, 2500=6,82000, 5000=6,60000 (USD); Mount: Surface Mount; Min Operating Temperature: -40°C; Max Operating Temperature: 125°C; Packaging: Tray; ComponentLink2URL: http://www.mouser.com/ds/2/389/l9779wd-spi-954852.pdf?src-supplier=Mouser; ComponentLink2Description: http://www.mouser.com/ds/2/389/l9779wd-spi-954852.pdf?src-supplier=Mouser; ComponentLink3URL: http://www.st.com/content/ccc/resource/technical/document/datasheet/ea/10/f2/db/39/73/44/4d/DM00175125.pdf/files/DM00175125.pdf/jcr:content/translations/en.DM00175125.pdf?src-supplier=Digi-Key; ComponentLink3Description: http://www.st.com/content/ccc/resource/technical/document/datasheet/ea/10/f2/db/39/73/44/4d/DM00175125.pdf/files/DM00175125.pdf/jcr:content/translations/en.DM00175125.pdf?src-supplier=Digi-Key; Supplier Part Number 1: 497-16385-ND
footprint HiQUAD-64 (64-Pin HI-QUAD package)
part A pins: 25 OUT3, 28 OUT4, 29 OUT7, 33 IN7, 34 IN6, 35 IN5, 36 IN4, 37 IN3, 39 IN1, 48 IN2, 56 OUT6, 57 OUT5, 60 OUT1, 61 OUT2
part B pins: 50 DIN, 51 SCK, 52 DO, 53 CS
part C pins: 1 CP, 2 VDD_G, 3 VDD5, 4 V3V3, 9 VTRK1, 10 VTRK2, 11 KEY_ON, 12 VB, 26 PGND4, 27 PGND4, 58 PGND3, 59 PGND3, 65 TAB
part D pins: 14 IGNI4, 15 IGNI3, 18 IGNI2, 19 IGNI1, 22 IGN1, 62 IGN2, 63 IGN3, 64 IGN4
part E pins: 45 K_LINE, 46 K_RX, 47 K_TX
part F pins: 24 OUT16, 30 OUT13, 31 OUT14, 32 OUT17, 40 OUT20, 54 OUT15, 55 OUT18
part G pins: 13 OUTA, 16 OUTB, 17 OUTC, 20 OUTD, 21 GND, 49 PWM(IN8)
part H pins: 41 CAN_L, 42 CAN_H, 43 CAN_RX, 44 CAN_TX
part I pins: 6 VRSP, 7 VRSN, 8 OUT VRS
part J pins: 23 MRD
part K pins: 5 RST, 38 WDA

## L9780
designator U?
IC POWERTRAIN INTERFACE 48LQFP; Manufacturer: STMicroelectronics; Supplier: Farnell; Supplier Part Number: 3367205; Manufacturer Part Number: L9780; RoHS: Yes; Category: Power Management ICs; Stock: 6388; RoHS Compliant: Yes; Supplier 1: Digikey; Supplier Part Number 1: 497-L9780-ND
footprint LQFP48 (48 Pin, Body 7x7x1.4)
part A pins: 1 TG1, 2 SNS, 4 INRC, 5 RCT1, 6 RCT2, 7 SR, 8 PG1, 9 PG2, 10 HD, 12 HG, 13 SY, 14 PW, 15 SO, 16 CLK, 17 SI, 18 CSN, 19 VCCI, 20 GNDD, 21 VCCD, 25 C1B, 26 C2B, 27 C3, 28 C2A, 29 C1A, 30 FV, 31 FVOUT, 32 BG, 33 CL2, 34 CL1, 37 VCCCP, 38 FLCP1, 39 FLCP2, 40 GNDCP, 41 CP, 42 VESD, 43 GNDA, 44 VCCA, 46 TG2, 47 OUT2, 48 OUT1
part B pins: 3 TST1, 11 TST2, 22 NC, 23 NC, 24 NC, 35 NC, 36 NC, 45 NC

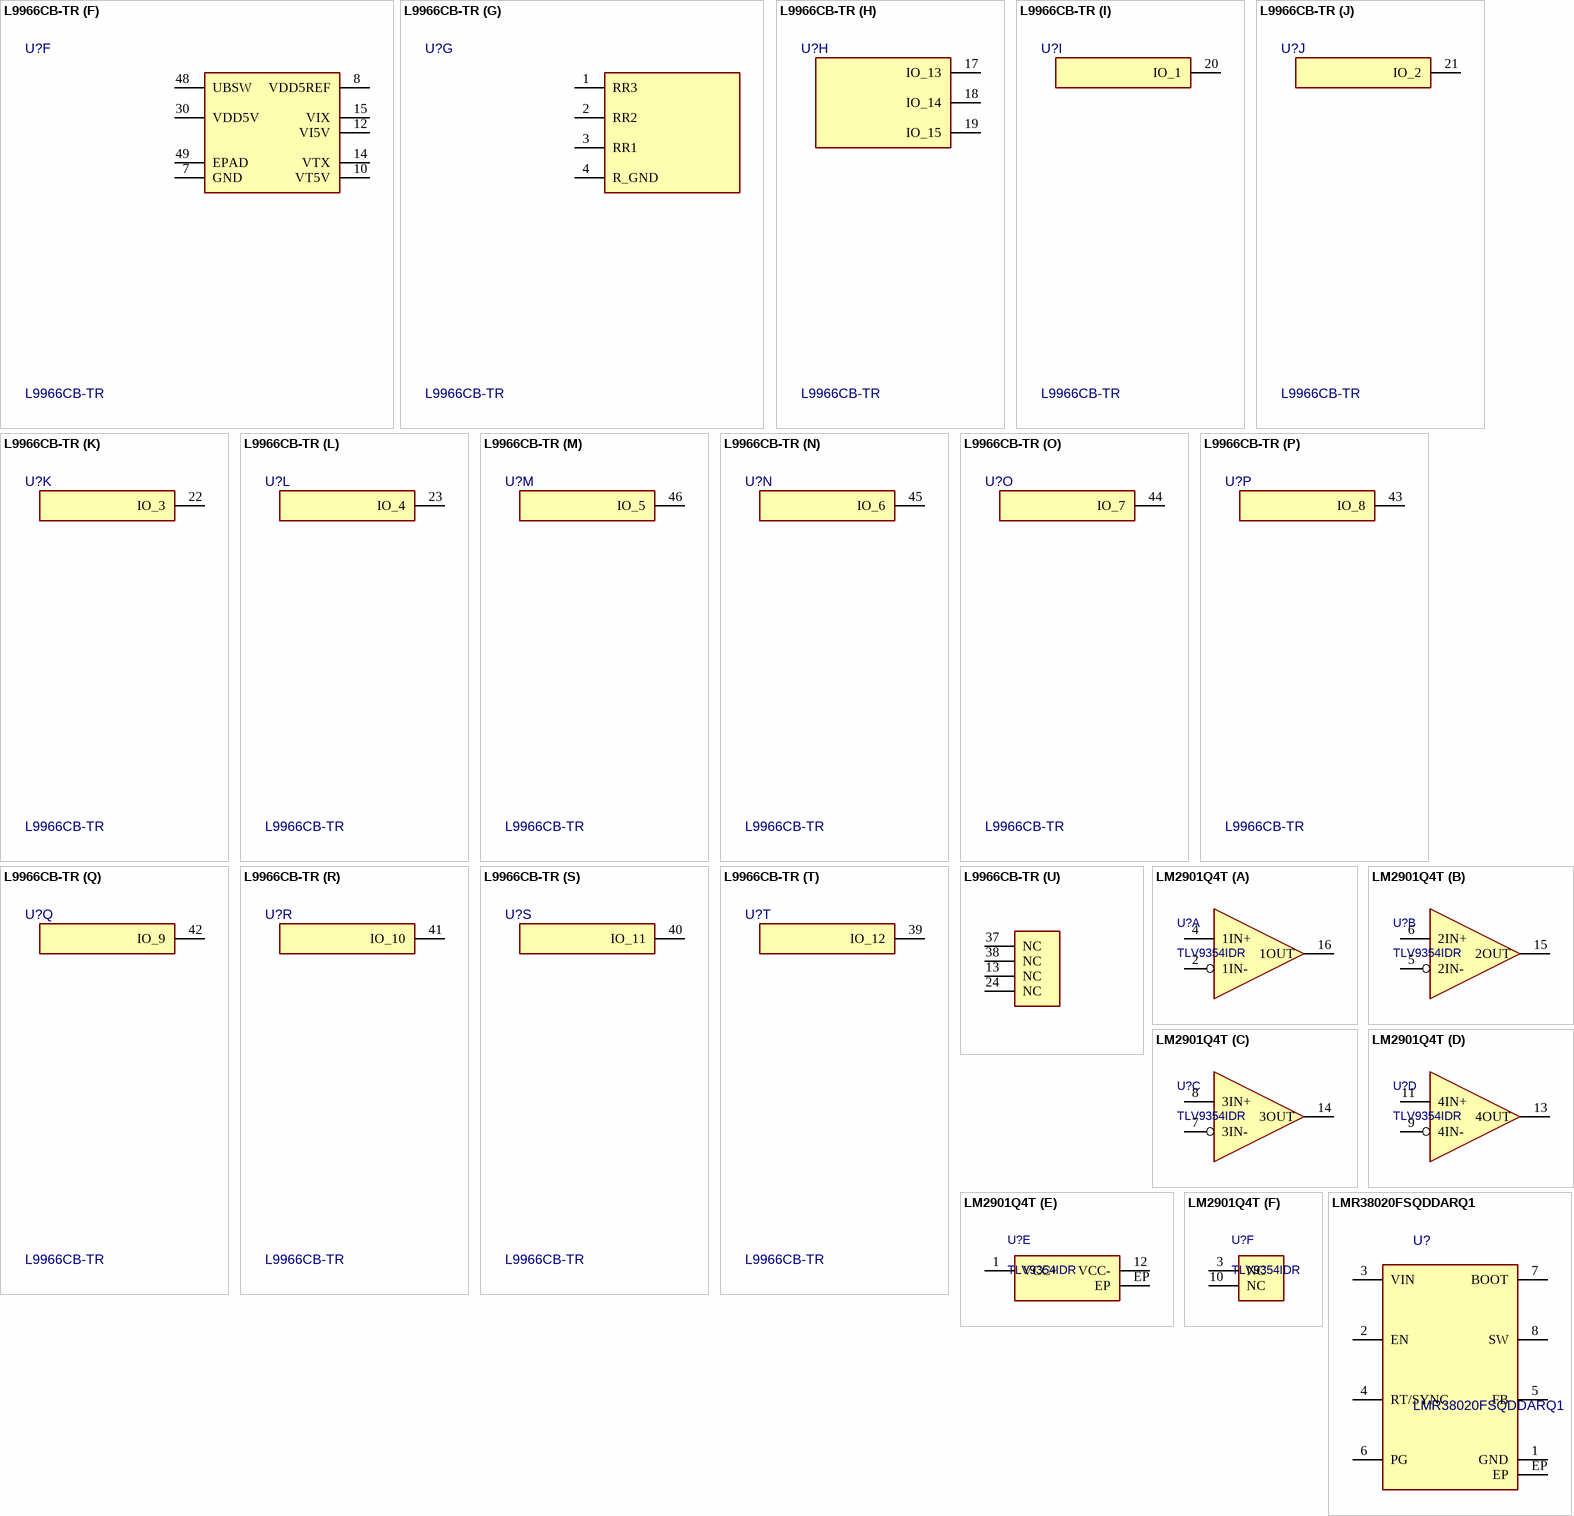
[diagram p4: symbols L9966CB-TR to LMR38020FSQDDARQ1]

## L9966CB-TR
designator U?
FLEXINPUT IC FOR AUTOMOTIVE APPL; Manufacturer: STMicroelectronics; Supplier 1: Digi-Key; RoHS: Yes; Pricing 1: 2400=4.20000 (USD); Supplier Part Number 1: L9966CB-TR-ND; Manufacturer Part Number: L9966CB-TR; Case/Package: 48-TQFP
footprint TQFP48-EP (TQFP48 (7x7x1 mm exp. pad down 5.0x5.0))
part A pins: 32 MISO, 33 MOSI, 34 CS, 35 SCLK
part B pins: 25 SENT4_GTM4, 26 SENT3_GTM3, 27 SENT2_GTM2, 28 SENT1_GTM1
part C pins: 5 VRSP, 6 VRSN, 11 VRS_OUT
part D pins: 9 AOX
part E pins: 16 CTRL_CFG, 29 INT, 31 SYNC, 36 RST, 47 WAKE
part F pins: 7 GND, 8 VDD5REF, 10 VT5V, 12 VI5V, 14 VTX, 15 VIX, 30 VDD5V, 48 UBSW, 49 EPAD
part G pins: 1 RR3, 2 RR2, 3 RR1, 4 R_GND
part H pins: 17 IO_13, 18 IO_14, 19 IO_15
part I pins: 20 IO_1
part J pins: 21 IO_2
part K pins: 22 IO_3
part L pins: 23 IO_4
part M pins: 46 IO_5
part N pins: 45 IO_6
part O pins: 44 IO_7
part P pins: 43 IO_8
part Q pins: 42 IO_9
part R pins: 41 IO_10
part S pins: 40 IO_11
part T pins: 39 IO_12
part U pins: 13 NC, 24 NC, 37 NC, 38 NC

## LM2901Q4T
designator U?, comment TLV9354IDR
IC COMPARATOR 4 GEN PUR 16QFN; Manufacturer: STMicroelectronics; Manufacturer Part Number: LM2901Q4T; Input Bias Current: 250nA; Input Offset Voltage (Vos): 15mV; Max Dual Supply Voltage: 16V; Max Supply Current: 2.5mA; Max Supply Voltage: 36V; Min Dual Supply Voltage: 1V; Min Supply Voltage: 2V; Nominal Supply Current: 275µA; Number of Channels: 4; Operating Supply Voltage: 5V; Output Type: TTL; Response Time: 1.3µs; Voltage Gain: 106.02dB; Supplier: DigiKey; Supplier Part Number: 497-12401-1-ND; RoHS: Compliant; Category: Comparators; Stock: 7772; Pricing: 1=0,39, 10=0,274, 25=0,2436, 100=0,2106, 250=0,19492, 500=0,18542, 1000=0,1776 (USD); Case/Package: QFN; China RoHS: Compliant; Height - Seated (Max): 1mm; Lead Free: Lead Free; Length: 3mm; Lifecycle Status: Production; Max Operating Temperature: 125°C; Min Operating Temperature: -40°C; Mounting Technology: Surface Mount; Number of Circuits: 4; Number of Elements: 4; Pins: 16; Number of Terminals: 16; Packaging: Tape and Reel; Quiescent Current: 2.5mA; Radiation Hardening: No; REACH SVHC: Yes; Schedule B: 8542390000, 8542390000|8542390000|8542390000|8542390000|8542390000|8542390000|8542390000|8542390000|8542390000|8542390000|8542390000|8542390000|8542390000|8542390000|8542390000|8542390000|8542390000|8542390000|8542390000|8542390000|8542390000|8542390000|8542390000|85; Terminal Pitch: 500µm; Type: General Purpose; Width: 3mm; ComponentLink1URL: https://datasheet.octopart.com:443/LM2901Q4T-STMicroelectronics-datasheet-10836286.pdf?src-supplier=Components+Direct; ComponentLink1Description: https://datasheet.octopart.com:443/LM2901Q4T-STMicroelectronics-datasheet-10836286.pdf?src-supplier=Components+Direct; ComponentLink2URL: https://datasheet.octopart.com:443/LM2901Q4T-STMicroelectronics-datasheet-62333498.pdf?src-supplier=TME; ComponentLink2Description: https://datasheet.octopart.com:443/LM2901Q4T-STMicroelectronics-datasheet-62333498.pdf?src-supplier=TME; Supplier 1: DigiKey; Supplier Part Number 1: 497-12401-1-ND
footprint QFN-16(3x3) (VQFN, 16-Leads, Body 3.5x3.5mm)
part A pins: 2 1IN-, 4 1IN+, 16 1OUT
part B pins: 5 2IN-, 6 2IN+, 15 2OUT
part C pins: 7 3IN-, 8 3IN+, 14 3OUT
part D pins: 9 4IN-, 11 4IN+, 13 4OUT
part E pins: 1 VCC+ (power), 12 VCC- (power), EP (power)
part F pins: 3 NC (power), 10 NC (power)

## LMR38020FSQDDARQ1
designator U?
IC REG BUCK ADJ 2A 8SOPWR "Buck Switching Regulator IC Positive Adjustable 1V 1 Output 2A 8-PowerSOIC (0.154"",...; Manufacturer: Texas Instruments; Manufacturer Lifecycle Status: ACTIVE; Supplier 1: DigiKey; Supplier Part Number 1: 296-LMR38020FSQDDARQ1CT-ND; Supplier: DigiKey; Supplier Part Number: 296-LMR38020FSQDDARQ1CT-ND; Manufacturer Part Number: LMR38020FSQDDARQ1; RoHS: Compliant; Category: Voltage Regulators - Switching; Stock: 1540; Pricing: 1=4,07, 10=3,075, 25=2,8276, 100=2,5554, 250=2,42556, 500=2,34734, 1000=2,28295 (USD); Height: 1.7mm; Length: 4.89mm; Lifecycle Status: Production; Pins: 8; Thickness: 1.48mm; Topology: Buck; Width: 3.9mm; ComponentLink1URL: https://octopart.com:443/opatz8j6/c1?t=RnKbBTbSmE3mjTD1dR24FxyAAtcUZqnsQtDsP4qaaRt0oyG7bshtEFBu6vLylXR4jlzlLxH3YmIwp75uhgYuaKa02Af3M3pSHYrF9pbP756NU9jKj6MH4kp6OAcZn4a9DC5xocQBQSlq5v0i5uUrz6awLaCEIzrqJ7aaisuqo65Tmwh3Bc2ynv2RGtflBgpihQofJD75ObVTodK6cEfO3189ygn4nEum5c9SOknZE1n8hxj51VceGFLxYMLlZFH9fKHDt994IbBDpdeFcmiK5QiXHxXg6LUBMib5BdLAinlGKrie-8d3XRVJszg1o4oV4UTj0HpNy-pOds8ffi4MwCw7MMBOt025wQ2CGDafjRTVZ1269USdfOZLbA8iskyM_VnTcjia_QULjA&src-supplier=Texas+Instruments; ComponentLink1Description: https://octopart.com:443/opatz8j6/c1?t=RnKbBTbSmE3mjTD1dR24FxyAAtcUZqnsQtDsP4qaaRt0oyG7bshtEFBu6vLylXR4jlzlLxH3YmIwp75uhgYuaKa02Af3M3pSHYrF9pbP756NU9jKj6MH4kp6OAcZn4a9DC5xocQBQSlq5v0i5uUrz6awLaCEIzrqJ7aaisuqo65Tmwh3Bc2ynv2RGtflBgpihQofJD75ObVTodK6cEfO3189ygn4nEum5c9SOknZE1n8hxj51VceGFLxYMLlZFH9fKHDt994IbBDpdeFcmiK5QiXHxXg6LUBMib5BdLAinlGKrie-8d3XRVJszg1o4oV4UTj0HpNy-pOds8ffi4MwCw7MMBOt025wQ2CGDafjRTVZ1269USdfOZLbA8iskyM_VnTcjia_QULjA&src-supplier=Texas+Instruments; ComponentLink2URL: https://datasheet.octopart.com:443/LMR38020FSQDDARQ1-Texas-Instruments-datasheet-184261082.pdf?src-supplier=LCSC; ComponentLink2Description: https://datasheet.octopart.com:443/LMR38020FSQDDARQ1-Texas-Instruments-datasheet-184261082.pdf?src-supplier=LCSC; ComponentLink3URL: http://sigma.octopart.com:80/conflict_mineral_statement/Texas-Instruments-company-63.pdf?src-supplier=Compliance+Statements; ComponentLink3Description: http://sigma.octopart.com:80/conflict_mineral_statement/Texas-Instruments-company-63.pdf?src-supplier=Compliance+Statements; ComponentLink4URL: http://sigma.octopart.com:80/reach_statement/Texas-Instruments-company-64.pdf?src-supplier=Compliance+Statements; ComponentLink4Description: http://sigma.octopart.com:80/reach_statement/Texas-Instruments-company-64.pdf?src-supplier=Compliance+Statements
footprint SOIC8_PAD (8-SOIC with exposed pad (0.154", 3.90mm Width))
pins: 1 GND, 2 EN, 3 VIN, 4 RT/SYNC, 5 FB, 6 PG, 7 BOOT, 8 SW, EP

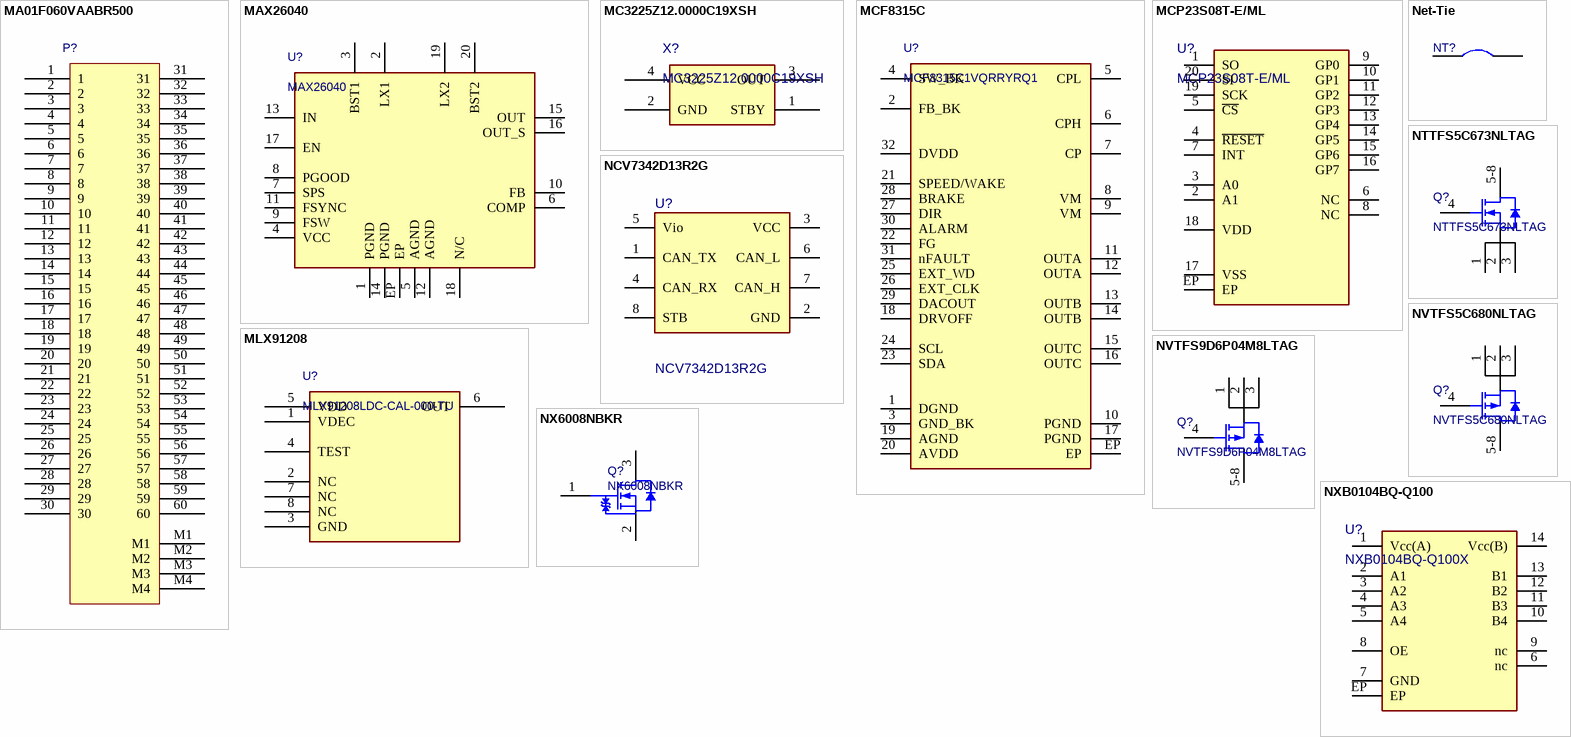
[diagram p5: symbols MA01F060VAABR500 to NXB0104BQ-Q100]

## MA01F060VAABR500
designator P?
footprint MA01F060VAABR500
pins: 1, 2, 3, 4, 5, 6, 7, 8, 9, 10, 11, 12, 13, 14, 15, 16, 17, 18, 19, 20, 21, 22, 23, 24, 25, 26, 27, 28, 29, 30, 31, 32, 33, 34, 35, 36, 37, 38, 39, 40, 41, 42, 43, 44, 45, 46, 47, 48, 49, 50, 51, 52, 53, 54, 55, 56, 57, 58, 59, 60, M1, M2, M3, M4

## MAX26040
designator U?
HV BUCK BOOST FOR VO9V AND FSW; Manufacturer Part Number: MAX26040
footprint QFN-20(4x4) (Plastic low profile quad flat package; 20Pin; 4X4mm)
pins: 1 PGND, 2 LX1, 3 BST1, 4 VCC, 5 AGND, 6 COMP, 7 SPS, 8 PGOOD, 9 FSW, 10 FB, 11 FSYNC, 12 AGND, 13 IN, 14 PGND, 15 OUT, 16 OUT_S, 17 EN, 18 N/C, 19 LX2, 20 BST2, EP

## MC3225Z12.0000C19XSH
designator X?
XTAL OSC XO 12.0000MHZ CMOS SMD; Manufacturer: KYOCERA AVX; Supplier 1: DigiKey; Supplier Part Number 1: 478-MC3225Z12.0000C19XSHCT-ND; Supplier: DigiKey; Supplier Part Number: 478-MC3225Z12.0000C19XSHCT-ND; Manufacturer Part Number: MC3225Z12.0000C19XSH; Category: Oscillators; Stock: 3356; Pricing: 1=1,44, 10=1,248, 25=1,18, 50=1,131, 100=1,0842, 250=1,02532, 500=0,98292, 1000=0,9423 (USD); ComponentLink1URL: https://datasheet.octopart.com:443/MC3225Z12.0000C19XSH-KYOCERA-AVX-datasheet-188906256.pdf?src-supplier=TME; ComponentLink1Description: https://datasheet.octopart.com:443/MC3225Z12.0000C19XSH-KYOCERA-AVX-datasheet-188906256.pdf?src-supplier=TME; ComponentLink2URL: http://sigma.octopart.com:80/reach_statement/AVX-company-19.pdf?src-supplier=Compliance+Statements; ComponentLink2Description: http://sigma.octopart.com:80/reach_statement/AVX-company-19.pdf?src-supplier=Compliance+Statements; ComponentLink3URL: http://sigma.octopart.com:80/conflict_mineral_statement/AVX-company-34.pdf?src-supplier=Compliance+Statements; ComponentLink3Description: http://sigma.octopart.com:80/conflict_mineral_statement/AVX-company-34.pdf?src-supplier=Compliance+Statements
footprint MC3225Z (0.126" L x 0.098" W (3.20mm x 2.50mm))
pins: 1 STBY, 2 GND, 3 OUT, 4 VCC